# EAGLE library part ROS-1900V (library ic)
ROS-1900V: VCO (Mini-Circuits) 5V, 1450-1900MHz (0.5-20V tuning)
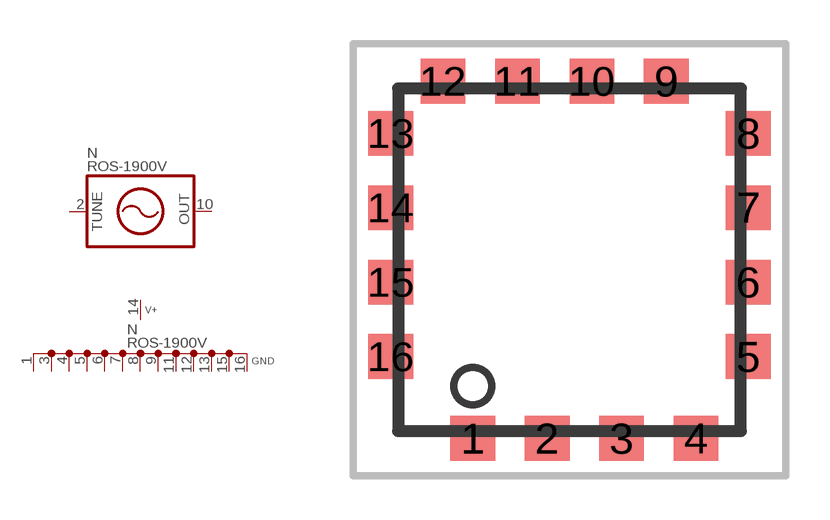
[diagram p66: symbol with the pads of MC-CK605; footprint MC-CK605]

Designator prefix N; gates  =VCO01 G$1=V+13GND

## ROS-1900V  [MC-CK605]
1  G$1:GND  pwr
2   :TUNE  in
3  G$1:GND  pwr
4  G$1:GND  pwr
5  G$1:GND  pwr
6  G$1:GND  pwr
7  G$1:GND  pwr
8  G$1:GND  pwr
9  G$1:GND  pwr
10   :OUT  out
11  G$1:GND  pwr
12  G$1:GND  pwr
13  G$1:GND  pwr
14  G$1:V+  pwr
15  G$1:GND  pwr
16  G$1:GND  pwr

## Footprint MC-CK605 (pad centres in mm)
Mini-Circuits CK605 SMD metal case (12*12mm), 16 pins
smd 1.524 x 1.524: 1 -3.302,-6.096; 2 -0.762,-6.096; 3 1.778,-6.096; 4 4.318,-6.096; 5 6.096,-3.302; 6 6.096,-0.762; 7 6.096,1.778; 8 6.096,4.318; 9 3.302,6.096; 10 0.762,6.096; 11 -1.778,6.096; 12 -4.318,6.096; 13 -6.096,4.318; 14 -6.096,1.778; 15 -6.096,-0.762; 16 -6.096,-3.302